# Altium schematic symbol library Header 4H.Schlib: 1 symbol
Pins are listed as number, name and electrical type; pins without a type are passive.

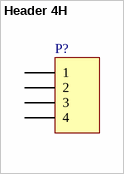
[diagram p0: symbol Header 4H]

## Header 4H
designator P?
Header, 4-Pin, Right Angle
pins: 1, 2, 3, 4